# Altium footprint library PassivePTH.PcbLib: 24 footprints (part 2 of 2)
Each footprint in its own frame and in the unit in brackets; x right, y up, seen from the top. Pads: shape width x height; smd on the part's side, far side on the other; paste and mask are expansions set on the pad; w line width, h text height; cw(c..) or ccw(c..) is an arc to the next point about the centre after c.
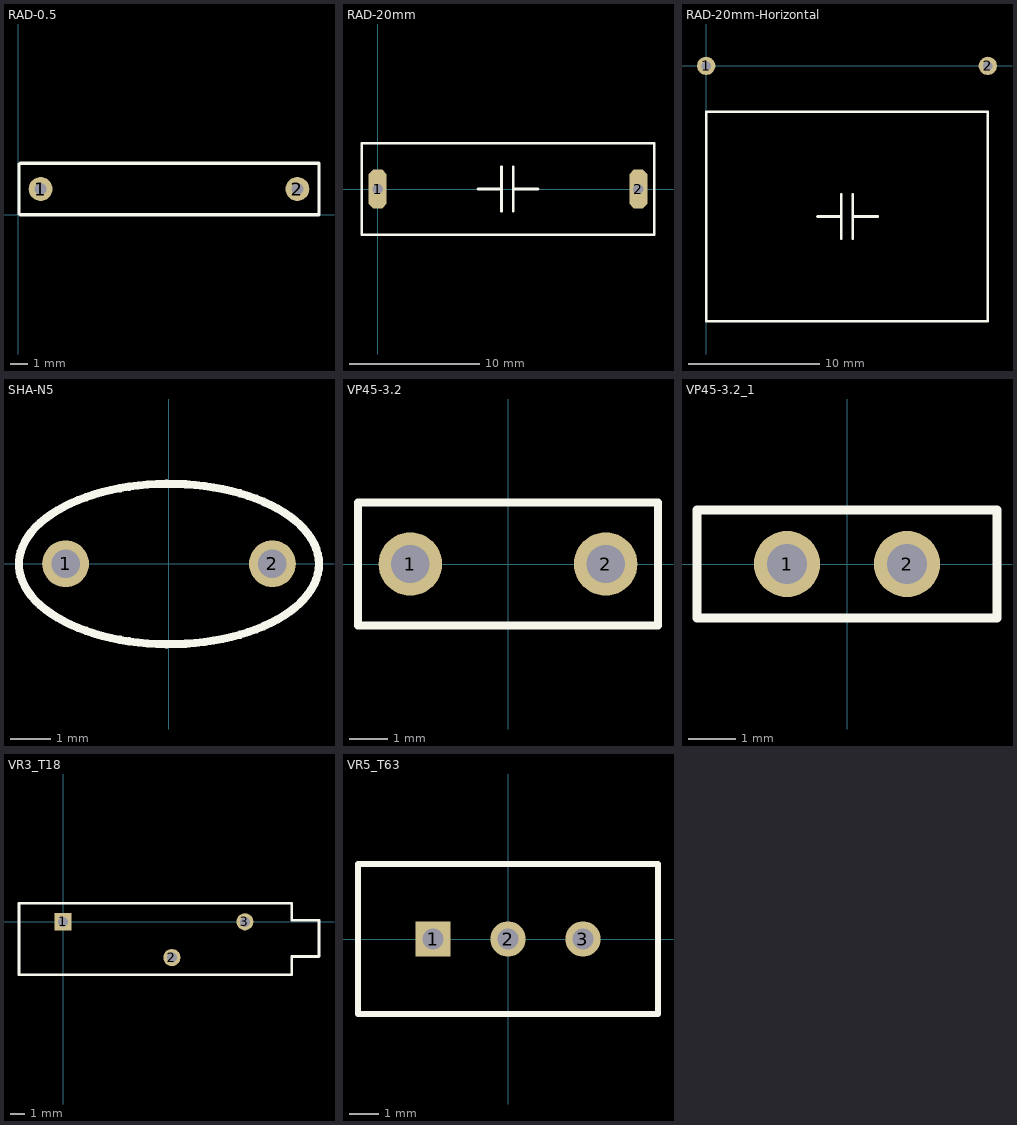
[diagram p1: the footprints below, top view; thin cyan lines are the x and y axes]

## RAD-0.5 [mm]
pads (2):
  round 1.4 hole 0.7: 1(1.3,1.5) 2(16.3,1.5)
Top Overlay:
  lines w0.2: 0.035,0.065 0.105,-0.005 17.565,-0.005 17.565,3.005 0.105,3.005 0.035,2.935 0.035,0.065

## RAD-20mm [mm]
pads (2):
  oct 1.4x3 hole 0.8: 1(0,0) 2(20,0)
Top Overlay:
  lines w0.2: -1.2,-3.5 21.2,-3.5 21.2,3.5 -1.2,3.5 -1.2,-3.5
  lines w0.203: 7.7,0 9.5,0 ; 9.5,-1.7 9.5,1.7 ; 10.4,-1.7 10.4,1.7 ; 10.5,0 12.3,0

## RAD-20mm-Horizontal [mm]
pads (2):
  round 1.4 hole 0.7: 1(0,0) 2(21.5,0)
Top Overlay:
  lines w0.203: 8.5,-11.5 10.3,-11.5 ; 10.3,-13.2 10.3,-9.8 ; 11.2,-13.2 11.2,-9.8 ; 11.3,-11.5 13.1,-11.5 ; 0,-19.5 21.5,-19.5 21.5,-3.5 0,-3.5 0,-19.5

## SHA-N5 [mm] "Capacitor, Radial, Tantalum, Non-Polarised; Body 7.37 x 3.94 x 6.86 mm (WxTxH max); Pin Spacing 5.08 mm (typ)"
height 6.86
pads (2):
  round 1.15 hole 0.7: 1(-2.54,0) 2(2.54,0)
Top Overlay:
  lines w0.2: -3.684,-0.068 -3.669,-0.193 -3.639,-0.317 -3.595,-0.44 -3.536,-0.561 -3.463,-0.68 -3.377,-0.796 -3.276,-0.909 -3.162,-1.018 -3.036,-1.123 -2.897,-1.224 -2.747,-1.319 -2.586,-1.41 -2.414,-1.495 -2.232,-1.574 -2.042,-1.646 -1.843,-1.712 -1.637,-1.771 -1.424,-1.823 -1.206,-1.868 -0.983,-1.905 -0.755,-1.934 -0.525,-1.956 -0.293,-1.97 -0.059,-1.976 0.175,-1.974 0.408,-1.964 0.639,-1.946 0.868,-1.92 1.094,-1.887 1.314,-1.846 1.53,-1.798 1.74,-1.742 1.942,-1.68 2.137,-1.611 2.323,-1.535 2.5,-1.453 2.666,-1.365 2.822,-1.272 2.967,-1.174 3.099,-1.071 3.219,-0.964 3.327,-0.853 3.42,-0.738 3.5,-0.621 3.566,-0.501 3.618,-0.379 3.655,-0.255 3.677,-0.131 3.684,-0.006 3.677,0.119 3.655,0.244 3.618,0.367 3.566,0.489 3.5,0.609 3.42,0.726 3.327,0.841 3.219,0.952 3.099,1.059 2.967,1.162 2.822,1.26 2.666,1.354 2.5,1.441 2.323,1.523 2.137,1.599 1.942,1.668 1.74,1.731 1.53,1.786 1.314,1.834 1.094,1.875 0.868,1.909 0.639,1.934 0.408,1.952 0.175,1.962 -0.059,1.964 -0.293,1.958 -0.525,1.944 -0.755,1.922 -0.983,1.893 -1.206,1.856 -1.424,1.811 -1.637,1.759 -1.843,1.7 -2.042,1.634 -2.232,1.562 -2.414,1.483 -2.586,1.398 -2.747,1.308 -2.897,1.212 -3.036,1.111 -3.162,1.006 -3.276,0.897 -3.377,0.784 -3.463,0.668 -3.536,0.549 -3.595,0.428 -3.639,0.305 -3.669,0.181 -3.684,0.057 -3.684,-0.068

## VP45-3.2 [mm] "Capacitor, Ceramic, Thru-Hole, Dipped Radial; Body 7.8 x 3.2 mm (WxT) Pin Spacing 5.08 mm (typ)"
height 6
pads (2):
  round 1.65 hole 1: 1(-2.54,0) 2(2.54,0)
Top Overlay:
  lines w0.2: -3.9,-1.6 -3.9,1.6 3.9,1.6 3.9,-1.6 -3.9,-1.6

## VP45-3.2_1 [mm] "Capacitor, Ceramic, Thru-Hole, Dipped Radial; Body 7.8 x 3.2 mm (WxT) Pin Spacing 5.08 mm (typ)"
height 6
pads (2):
  round 1.4 hole 0.85: 1(-1.27,0) 2(1.27,0)
Top Overlay:
  lines w0.2: -3.175,-1.143 -3.175,1.143 3.175,1.143 3.175,-1.143 -3.175,-1.143
3D body "SW3dPS-Cap 100n.STEP": height 6.92, standoff -1, extent -2.918,-0.848 2.921,0.848

## VR3_T18 [mm] "Tapped Resistor; 3 Leads"
height 5.33
pads (3):
  rect 1.2x1.2 hole 0.7: 1(0,0)
  round 1.2 hole 0.7: 2(7.6,-2.5) 3(12.7,0)
Top Overlay:
  lines w0.2: 15.971,0.107 17.876,0.107 ; 15.971,0.107 17.876,0.107 ; 15.971,0.107 15.971,1.297 -3.079,1.297 -3.079,-3.703 15.971,-3.703 15.971,-2.433 17.876,-2.433 17.876,0.107
3D body "SW3dPS-bourns_3006p.STEP": height 6.68, standoff -4.88, extent -3.048,-3.429 17.526,1.397

## VR5_T63 [mm] "Potentiometer; 3 Leads"
height 5.33
pads (3):
  rect 1.2x1.2 hole 0.7: 1(-2.54,0)
  round 1.2 hole 0.7: 2(0,0) 3(2.54,0)
Top Overlay:
  lines w0.2: -5.08,-2.54 5.08,-2.54 5.08,2.54 -5.08,2.54 -5.08,-2.54
3D body "T63.STEP": height 12.26, standoff -5.24, extent -4.572,-2.286 4.628,2.514